# Altium footprint library SG_PCB_Chip.PcbLib: 110 footprints (part 1 of 7)
Each footprint in its own frame and in the unit in brackets; x right, y up, seen from the top. Pads: shape width x height; smd on the part's side, far side on the other; paste and mask are expansions set on the pad; w line width, h text height; cw(c..) or ccw(c..) is an arc to the next point about the centre after c.
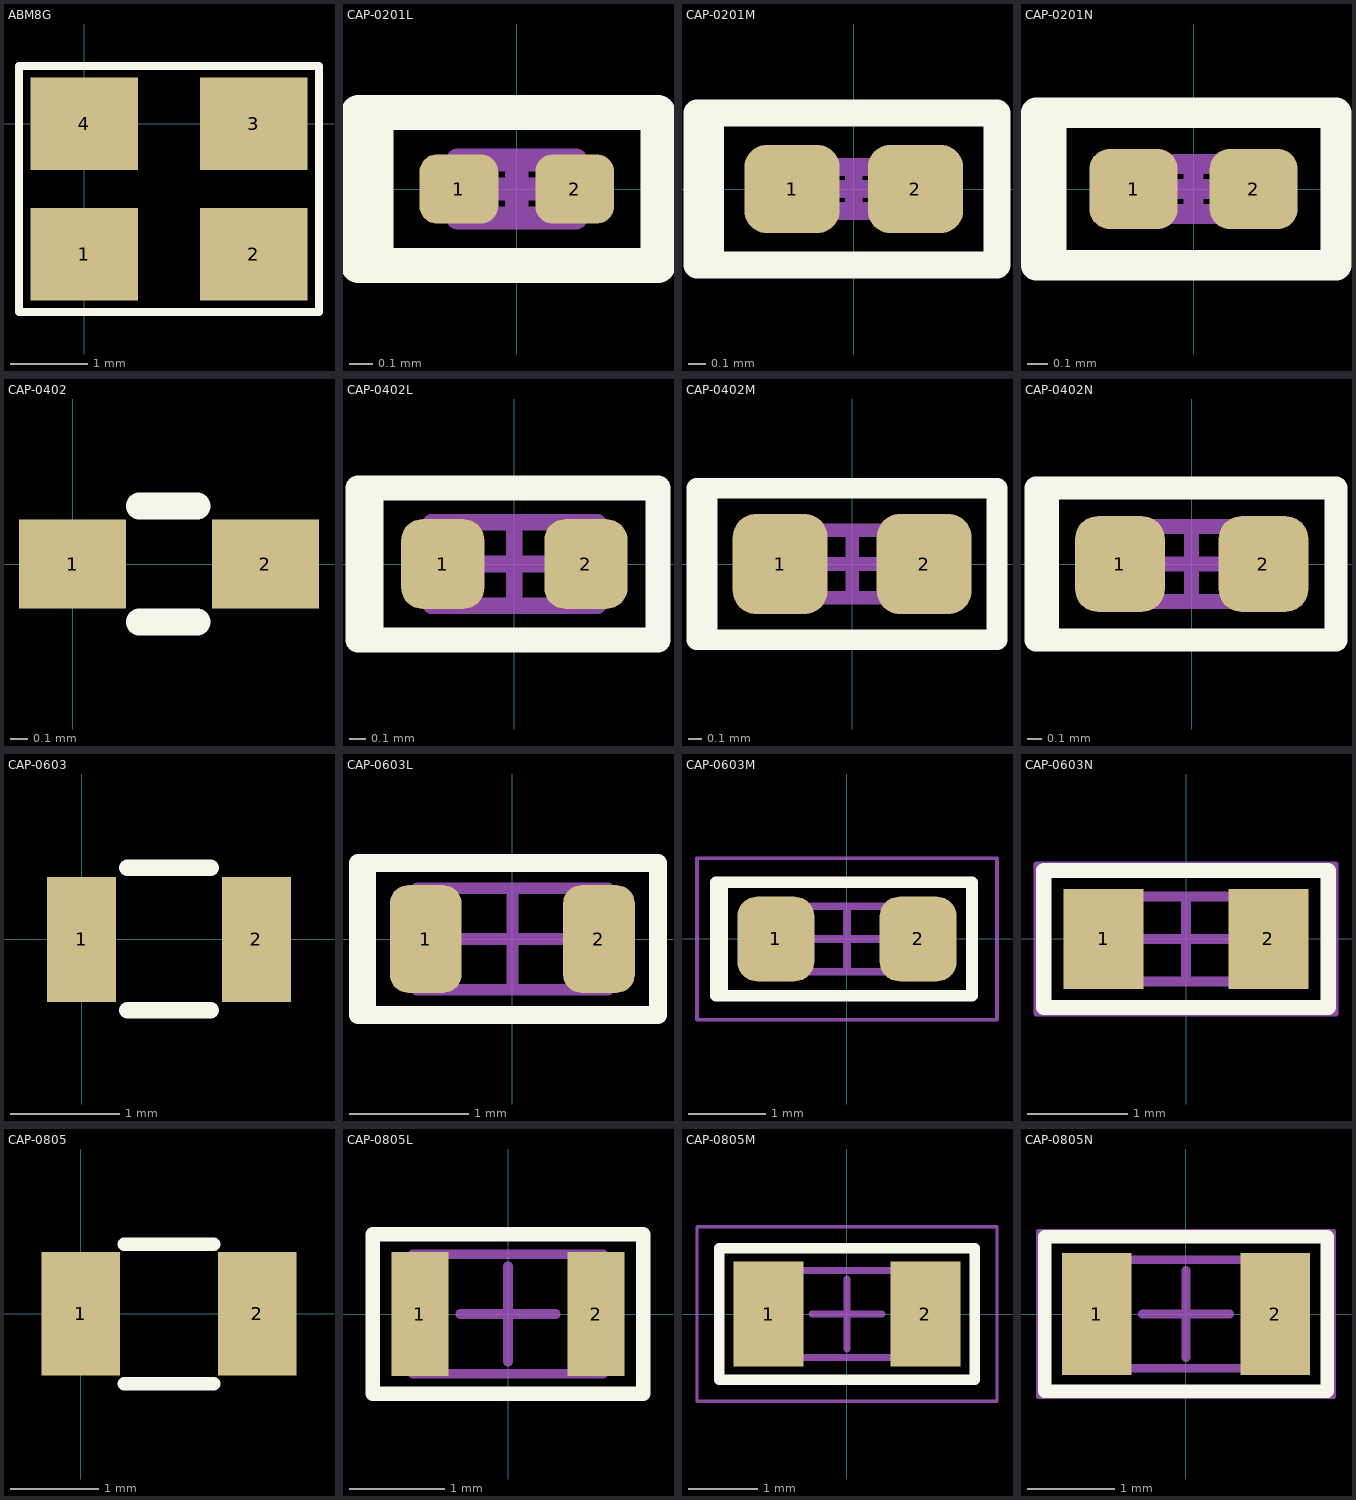
[diagram p0: the footprints below, top view; thin cyan lines are the x and y axes]

## ABM8G [mm]
pads (4):
  rect 1.4x1.2 smd: 1(0,-1.7) 2(2.2,-1.7) 3(2.2,0) 4(0,0)
Top Overlay:
  lines w0.1: -0.85,-2.45 3.05,-2.45 3.05,0.75 -0.85,0.75 -0.85,-2.45
3D body "ABM8G.step": height 1.01, standoff 0, extent -0.525,-2.075 2.675,0.425

## CAP-0201L [mm] "Chip Capacitor, 2-Leads, Body 0,51x0,25mm, IPC High Density"
height 0.23
pads (2):
  rrect50% 0.34x0.3 smd: 1(-0.25,0) 2(0.25,0)
Top Overlay:
  lines w0.152: -0.508,0.33 -0.686,0.33 -0.686,-0.33 -0.61,-0.33 ; -0.61,-0.33 0.546,-0.33 0.61,-0.33 0.61,0.33 -0.61,0.33 -0.61,-0.33
Assembly Top:
  lines w0.1: -0.255,-0.125 0.255,-0.125 0.255,0.125 -0.255,0.125 -0.255,-0.125
Courtyard Top:
  lines w0.05: -0.61,-0.33 0.61,-0.33 0.61,0.33 -0.61,0.33 -0.61,-0.33
  lines w0.1: -0.125,0 0.125,0 ; 0,-0.125 0,0.125
3D body "CAPC0503X02L.step": height 0.23, standoff 0, extent -0.255,-0.125 0.255,0.125

## CAP-0201M [mm] "Chip Capacitor, 2-Leads, Body 0,51x0,25mm, IPC Low Density"
height 0.23
pads (2):
  rrect50% 0.54x0.5 smd: 1(-0.35,0) 2(0.35,0)
Top Overlay:
  lines w0.152: -0.533,0.432 -0.889,0.432 -0.889,-0.051 -0.889,-0.432 -0.813,-0.432 ; -0.813,-0.432 -0.813,0.432 0.813,0.432 0.813,-0.432 0.406,-0.432 -0.813,-0.432
Assembly Top:
  lines w0.1: -0.255,-0.125 0.255,-0.125 0.255,0.125 -0.255,0.125 -0.255,-0.125
Courtyard Top:
  lines w0.05: -0.813,-0.432 0.813,-0.432 0.813,0.432 -0.813,0.432 -0.813,-0.432
  lines w0.1: -0.125,0 0.125,0 ; 0,-0.125 0,0.125
3D body "CAPC0503X02M.step": height 0.23, standoff 0, extent -0.255,-0.125 0.255,0.125

## CAP-0201N [mm] "Chip Capacitor, 2-Leads, Body 0,51x0,25mm, IPC Medium Density"
height 0.23
pads (2):
  rrect50% 0.44x0.4 smd: 1(-0.3,0) 2(0.3,0)
Top Overlay:
  lines w0.152: -0.508,0.381 -0.787,0.381 -0.787,0 -0.787,-0.381 -0.711,-0.381 ; -0.711,-0.381 0.711,-0.381 0.711,0.381 -0.711,0.381 -0.711,-0.381
Assembly Top:
  lines w0.1: -0.255,-0.125 -0.255,0.125 0.255,0.125 0.255,-0.125 -0.255,-0.125
Courtyard Top:
  lines w0.05: -0.711,-0.381 -0.711,0.381 0.711,0.381 0.711,-0.381 -0.711,-0.381
  lines w0.1: -0.125,0 0.125,0 ; 0,-0.125 0,0.125
3D body "CAPC0503X02N.step": height 0.23, standoff 0, extent -0.255,-0.125 0.255,0.125

## CAP-0402 [mm] "chip capacitor"
pads (2):
  rect 0.61x0.51 smd mask+0.05: 1(0,0) 2(1.1,0)
Top Overlay:
  lines w0.152: 0.381,-0.33 0.711,-0.33 ; 0.381,0.33 0.711,0.33
3D body "Chip Cap_MLCC_0402.step": height 0.5, standoff 0, extent 0.059,-0.246 1.059,0.254

## CAP-0402L [mm] "Chip Capacitor, 2-Leads, Body 1,00x0,50mm, IPC High Density"
height 0.55
pads (2):
  rrect50% 0.5x0.54 smd: 1(-0.43,0) 2(0.43,0)
Top Overlay:
  lines w0.152: -0.864,-0.457 -0.864,0.457 ; -0.864,-0.457 0.864,-0.457 0.864,0.457 -0.864,0.457 ; -0.864,-0.457 -0.94,-0.457 -0.94,0.457 -0.864,0.457
Assembly Top:
  lines w0.1: -0.5,-0.25 -0.5,0.25 0.5,0.25 0.5,-0.25 -0.5,-0.25
Courtyard Top:
  lines w0.05: -0.864,-0.457 -0.864,0.457 0.864,0.457 0.864,-0.457 -0.864,-0.457
  lines w0.1: -0.25,0 0.25,0 ; 0,-0.25 0,0.25
3D body "CAPC1005X06L.step": height 0.55, standoff 0, extent -0.5,-0.25 0.5,0.25

## CAP-0402M [mm] "Chip Capacitor, 2-Leads, Body 1,00x0,50mm, IPC Low Density"
height 0.55
pads (2):
  rrect50% 0.7x0.74 smd: 1(-0.53,0) 2(0.53,0)
Top Overlay:
  lines w0.152: -1.067,-0.559 1.067,-0.559 1.067,0.559 -1.067,0.559 ; -1.067,-0.559 -1.067,0.559 ; -1.067,-0.559 -1.143,-0.559 -1.143,-0.25 -1.143,0.559 -1.067,0.559
Assembly Top:
  lines w0.1: -0.5,-0.25 -0.5,0.25 0.5,0.25 0.5,-0.25 -0.5,-0.25
Courtyard Top:
  lines w0.05: -1.067,-0.559 -1.067,0.559 1.067,0.559 1.067,-0.559 -1.067,-0.559
  lines w0.1: -0.25,0 0.25,0 ; 0,-0.25 0,0.25
3D body "CAPC1005X06M.step": height 0.55, standoff 0, extent -0.5,-0.25 0.5,0.25

## CAP-0402N [mm] "Chip Capacitor, 2-Leads, Body 1,00x0,50mm, IPC Medium Density"
height 0.55
pads (2):
  rrect50% 0.6x0.64 smd: 1(-0.48,0) 2(0.48,0)
Top Overlay:
  lines w0.152: -0.965,-0.508 -1.041,-0.508 -1.041,-0.076 -1.041,0.508 -0.965,0.508 ; -0.965,-0.508 -0.965,0.508 ; -0.965,-0.508 0.965,-0.508 0.965,0.508 -0.965,0.508
Assembly Top:
  lines w0.1: -0.5,-0.25 0.5,-0.25 0.5,0.25 -0.5,0.25 -0.5,-0.25
Courtyard Top:
  lines w0.05: -0.965,-0.508 -0.965,0.508 0.965,0.508 0.965,-0.508 -0.965,-0.508
  lines w0.1: -0.25,0 0.25,0 ; 0,-0.25 0,0.25
3D body "CAPC1005X06N.step": height 0.55, standoff 0, extent -0.5,-0.25 0.5,0.25

## CAP-0603 [mil]
pads (2):
  rect 25x45 smd mask+1.97: 1(0,0) 2(62.99,0)
Top Overlay:
  lines w6: 16.5,-25.45 46.5,-25.45 ; 16.5,25.73 46.5,25.73
3D body "Chip Cap_MLCC_0603.step": height 19.68, standoff 0, extent 0,-15.75 63,15.75

## CAP-0603L [mm] "Chip Capacitor, 2-Leads, Body 1,60x0,85mm, IPC High Density"
height 0.9
pads (2):
  rrect50% 0.6x0.9 smd: 1(-0.725,0) 2(0.725,0)
Top Overlay:
  lines w0.152: -1.092,-0.635 -1.292,-0.635 -1.292,0.635 -1.041,0.635 ; -1.219,-0.635 -1.219,0.635 1.219,0.635 1.219,-0.635 -1.219,-0.635
Assembly Top:
  lines w0.1: -0.8,-0.425 0.8,-0.425 0.8,0.425 -0.8,0.425 -0.8,-0.425
Courtyard Top:
  lines w0.05: -1.219,-0.635 1.219,-0.635 1.219,0.635 -1.219,0.635 -1.219,-0.635
  lines w0.1: -0.425,0 0.425,0 ; 0,-0.425 0,0.425
3D body "CAPC1608X09L.step": height 0.9, standoff 0, extent -0.8,-0.425 0.8,0.425

## CAP-0603M [mm] "Chip Capacitor, 2-Leads, Body 1,60x0,85mm, IPC Low Density"
height 0.9
pads (2):
  rrect50% 1x1.1 smd: 1(-0.925,0) 2(0.925,0)
Top Overlay:
  lines w0.152: -1.626,-0.737 -1.702,-0.737 -1.702,0.737 -1.626,0.737 ; -1.626,-0.737 -1.626,0.737 ; -1.626,-0.737 1.626,-0.737 1.626,0.737 -1.626,0.737
Assembly Top:
  lines w0.1: -0.8,-0.425 0.8,-0.425 0.8,0.425 -0.8,0.425 -0.8,-0.425
Courtyard Top:
  lines w0.05: -1.95,-1.05 1.95,-1.05 1.95,1.05 -1.95,1.05 -1.95,-1.05
  lines w0.1: -0.425,0 0.425,0 ; 0,-0.425 0,0.425
3D body "CAPC1608X09M.step": height 0.9, standoff 0, extent -0.8,-0.425 0.8,0.425

## CAP-0603N [mm] "Chip Capacitor, 2-Leads, Body 1,60x0,85mm, IPC Medium Density"
height 0.9
pads (2):
  rect 0.8x1 smd: 1(-0.825,0) 2(0.825,0)
Top Overlay:
  lines w0.152: -1.422,-0.686 1.422,-0.686 1.422,0.686 -1.422,0.686 -1.422,-0.686
Assembly Top:
  lines w0.1: -0.8,-0.425 0.8,-0.425 0.8,0.425 -0.8,0.425 -0.8,-0.425
Courtyard Top:
  lines w0.05: -1.5,-0.75 1.5,-0.75 1.5,0.75 -1.5,0.75 -1.5,-0.75
  lines w0.1: -0.425,0 0.425,0 ; 0,-0.425 0,0.425
3D body "CAPC1608X09N.step": height 0.9, standoff 0, extent -0.8,-0.425 0.8,0.425

## CAP-0805 [mil]
pads (2):
  rect 35x55 smd mask+1.97: 1(0,0) 2(78.74,0)
Top Overlay:
  lines w6: 19.37,-31.1 59.37,-31.1 ; 19.37,30.91 59.37,30.91
3D body "Chip Cap_MLCC_0805.step": height 23.62, standoff 0, extent 0,-24.6 78.74,24.61

## CAP-0805L [mm] "Chip Capacitor, 2-Leads, Body 2,00x1,25mm, IPC High Density"
height 1.3
pads (2):
  rect 0.6x1.3 smd: 1(-0.925,0) 2(0.925,0)
Top Overlay:
  lines w0.152: -1.422,-0.838 1.422,-0.838 1.422,0.838 -1.422,0.838 -1.422,-0.838
Assembly Top:
  lines w0.1: -1,-0.625 -1,0.625 1,0.625 1,-0.625 -1,-0.625
Courtyard Top:
  lines w0.05: -1.422,-0.838 -1.422,0.838 1.422,0.838 1.422,-0.838 -1.422,-0.838
  lines w0.1: -0.5,0 0.5,0 ; 0,-0.5 0,0.5
3D body "CAPC2012X13L.step": height 1.3, standoff 0, extent -1,-0.625 1,0.625

## CAP-0805M [mm] "Chip Capacitor, 2-Leads, Body 2,00x1,25mm, IPC Low Density"
height 1.3
pads (2):
  rect 1x1.5 smd: 1(-1.125,0) 2(1.125,0)
Top Overlay:
  lines w0.152: -1.829,-0.94 -1.829,0.94 1.829,0.94 1.829,-0.94 -1.829,-0.94
Assembly Top:
  lines w0.1: -1,-0.625 1,-0.625 1,0.625 -1,0.625 -1,-0.625
Courtyard Top:
  lines w0.05: -2.15,-1.25 2.15,-1.25 2.15,1.25 -2.15,1.25 -2.15,-1.25
  lines w0.1: -0.5,0 0.5,0 ; 0,-0.5 0,0.5
3D body "CAPC2012X13M.step": height 1.3, standoff 0, extent -1,-0.625 1,0.625

## CAP-0805N [mm] "Chip Capacitor, 2-Leads, Body 2,00x1,25mm, IPC Medium Density"
height 1.3
pads (2):
  rect 0.8x1.4 smd: 1(-1.025,0) 2(1.025,0)
Top Overlay:
  lines w0.152: -1.626,-0.889 -1.626,0.889 1.626,0.889 1.626,-0.889 -1.626,-0.889
Assembly Top:
  lines w0.1: -1,-0.625 -1,0.625 1,0.625 1,-0.625 -1,-0.625
Courtyard Top:
  lines w0.05: -1.7,-0.95 -1.7,0.95 1.7,0.95 1.7,-0.95 -1.7,-0.95
  lines w0.1: -0.5,0 0.5,0 ; 0,-0.5 0,0.5
3D body "CAPC2012X13N.step": height 1.3, standoff 0, extent -1,-0.625 1,0.625